# Altium footprint library buttons.PcbLib: 9 footprints
Each footprint in its own frame and in the unit in brackets; x right, y up, seen from the top. Pads: shape width x height; smd on the part's side, far side on the other; paste and mask are expansions set on the pad; w line width, h text height; cw(c..) or ccw(c..) is an arc to the next point about the centre after c.
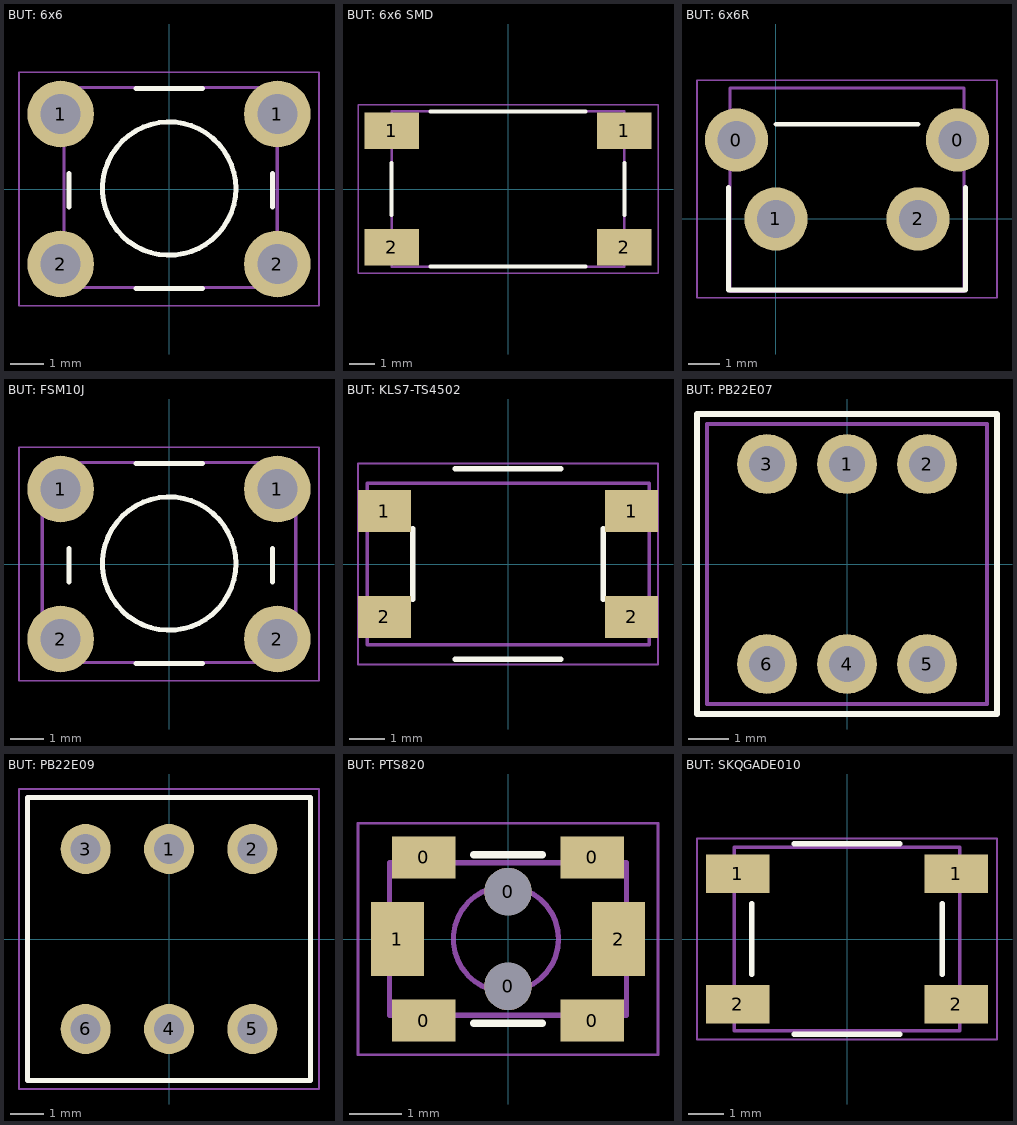
[diagram p0: the footprints below, top view; thin cyan lines are the x and y axes]

## BUT: 6x6 [mm] "Leaded Tactile Button 6x6"
height 5
pads (4):
  round 2 hole 1.2: 1(-3.25,2.25) 1(3.25,2.25) 2(-3.25,-2.25) 2(3.25,-2.25)
Top Overlay:
  circle w0.15: c0.004,0.012 r2
  lines w0.15: -2.996,-0.544 -2.996,0.472 ; -0.996,-2.988 1.004,-2.988 ; -0.996,3.012 1.004,3.012 ; 3.1,-0.544 3.1,0.472
Top Assembly:
  lines w0.1: -3.148,-2.957 -3.148,3.043 3.252,3.043 3.252,-2.957 -3.148,-2.957
  text ".Designator" at -4.998,-0.333 h1
Top Courtyard (Mech15):
  lines w0.05: -4.5,-3.5 4.5,-3.5 4.5,3.5 -4.5,3.5 -4.5,-3.5
3D body "кнопка_тактовая_6х6х1.STEP": height 4.5, standoff -0.9, extent -3.148,-2.957 3.252,3.043

## BUT: 6x6 SMD [mm] "Leaded Tactile Button 6x6"
height 9
pads (4):
  rect 2.1x1.4 smd: 1(-4.5,2.25) 1(4.5,2.25) 2(-4.5,-2.25) 2(4.5,-2.25)
Top Overlay:
  lines w0.15: -4.5,-1 -4.5,1 ; -3,-3 3,-3 ; -3,3 3,3 ; 4.5,-1 4.5,1
Top Assembly:
  lines w0.1: -4.5,-3 -4.5,3 4.5,3 4.5,-3 -4.5,-3
  text ".Designator" at -4.998,-0.333 h1
Top Courtyard (Mech15):
  lines w0.05: -5.8,-3.25 5.8,-3.25 5.8,3.25 -5.8,3.25 -5.8,-3.25
3D body "User Library-PTS645SL43SMTR92-LFS.STEP": height 4.3, standoff 0, extent -4.5,-3 4.5,3

## BUT: 6x6R [mm]
height 7.4
pads (4):
  round 2 hole 1.2: 0(-1.25,2.5) 0(5.75,2.5) 1(0,0) 2(4.5,0)
Top Overlay:
  lines w0.15: -1.5,1 -1.5,-2.25 6,-2.25 6,1 ; 0,3 4.5,3
Top Assembly:
  lines w0.1: -1.45,-2.3 -1.45,4.15 5.95,4.15 5.95,-2.3 -1.45,-2.3
  text ".Designator" at -4.998,-0.333 h1
Top Courtyard (Mech15):
  lines w0.05: -2.5,-2.5 -2.5,4.4 7,4.4 7,-2.5 -2.5,-2.5
3D body "User Library-SWITCH, TACTILE, RIGHT ANGLE, 12VDC, 50MA, 6_85MM ACTUATOR, WEALTH METAL TC-0244Z-1.STEP": height 7, standoff -4, extent -1.45,-6.85 5.95,4.15

## BUT: FSM10J [mm] "Leaded Tactile Button 6x6"
height 5
pads (4):
  round 2 hole 1.2: 1(-3.25,2.25) 1(3.25,2.25) 2(-3.25,-2.25) 2(3.25,-2.25)
Top Overlay:
  circle w0.15: c0.004,0.012 r2
  lines w0.15: -2.996,-0.544 -2.996,0.472 ; -0.996,-2.988 1.004,-2.988 ; -0.996,3.012 1.004,3.012 ; 3.1,-0.544 3.1,0.472
Top Assembly:
  lines w0.1: -3.8,-2.957 -3.8,3.043 3.8,3.043 3.8,-2.957 -3.8,-2.957
  text ".Designator" at -4.998,-0.333 h1
Top Courtyard (Mech15):
  lines w0.05: -4.5,-3.5 4.5,-3.5 4.5,3.5 -4.5,3.5 -4.5,-3.5
3D body "FSM10J.STEP": height 7.2, standoff -3.53, extent -3.801,-2.957 3.801,3.043

## BUT: KLS7-TS4502 [mm]
pads (4):
  rect 1.5x1.2 smd: 1(-3.5,1.5) 1(3.5,1.5) 2(-3.5,-1.5) 2(3.5,-1.5)
Top Overlay:
  lines w0.15: -2.7,-1 -2.7,1 ; -1.5,-2.7 1.5,-2.7 ; -1.5,2.7 1.5,2.7 ; 2.7,-1 2.7,1
Top Assembly:
  lines w0.1: -3.992,-2.286 -3.992,2.286 4.001,2.286 4.001,-2.286 -3.992,-2.286
  text ".Designator" at -4.998,-0.333 h1
Top Courtyard (Mech15):
  lines w0.05: -4.25,-2.85 -4.25,2.85 4.25,2.85 4.25,-2.85 -4.25,-2.85
3D body "button.STEP": height 3.8, standoff 0, extent -4,-2.25 4,2.25

## BUT: PB22E07 [mm] "DPDT, 7x7"
height 12.3
pads (6):
  round 1.5 hole 0.9: 1(0,2.5) 2(2,2.5) 3(-2,2.5) 4(0,-2.5) 5(2,-2.5) 6(-2,-2.5)
Top Overlay:
  lines w0.15: -3.75,-3.75 -3.75,3.75 3.75,3.75 3.75,-3.75 -3.75,-3.75
Top Assembly:
  lines w0.1: -3.5,-3.5 -3.5,3.5 3.5,3.5 3.5,-3.5 -3.5,-3.5
  text ".Designator" at -4.998,-0.333 h1
Top Courtyard (Mech15):
  lines w0.05: -3.75,-3.75 -3.75,3.75 3.75,3.75 3.75,-3.75 -3.75,-3.75
3D body "PB22E07.STEP": height 12.6, standoff -2, extent -3.5,-3.5 3.5,3.5

## BUT: PB22E09 [mm] "DPDT, 8.5x8.5x14"
height 14
pads (6):
  round 1.5 hole 0.9: 1(0,2.7) 2(2.5,2.7) 3(-2.5,2.7) 4(0,-2.7) 5(2.5,-2.7) 6(-2.5,-2.7)
Top Overlay:
  lines w0.15: -4.25,-4.25 -4.25,4.25 4.25,4.25 4.25,-4.25 -4.25,-4.25
Top Assembly:
  lines w0.1: -4.25,-4.25 -4.25,4.25 4.25,4.25 4.25,-4.25 -4.25,-4.25
  text ".Designator" at -4.998,-0.333 h1
Top Courtyard (Mech15):
  lines w0.05: -4.5,-4.5 4.5,-4.5 4.5,4.5 -4.5,4.5 -4.5,-4.5
3D body "PB22E09.STEP": height 14, standoff -2, extent -4.25,-4.25 4.25,4.25

## BUT: PTS820 [mm]
pads (8):
  rect 1.2x0.8 smd: 0(-1.6,-1.55) 0(-1.6,1.55) 0(1.6,-1.55) 0(1.6,1.55)
  round 0.9 hole 0.9 unplated: 0(0,-0.9) 0(0,0.9)
  rect 1x1.4 smd: 1(-2.1,0) 2(2.1,0)
Top Overlay:
  lines w0.15: -0.65,-1.6 0.65,-1.6 ; -0.65,1.6 0.65,1.6
Top Assembly:
  circle w0.1: c-0.04,0 r1
  lines w0.1: -2.25,-1.45 2.25,-1.45 2.25,1.45 -2.25,1.45 -2.25,-1.45
  text ".Designator" at -4.998,-0.333 h1
Top Courtyard (Mech15):
  lines w0.05: -2.85,-2.2 -2.85,2.2 2.85,2.2 2.85,-2.2 -2.85,-2.2
3D body "PTS820J20KSMTRLFS.stp": height 2.05, standoff 0.05, extent -2.25,-1.45 2.25,1.45

## BUT: SKQGADE010 [mm]
pads (4):
  rect 1.8x1.1 smd: 1(-3.1,1.85) 1(3.1,1.85) 2(-3.1,-1.85) 2(3.1,-1.85)
Top Overlay:
  lines w0.15: -2.7,-1 -2.7,1 ; -1.5,-2.7 1.5,-2.7 ; -1.5,2.7 1.5,2.7 ; 2.7,-1 2.7,1
Top Assembly:
  lines w0.1: -3.2,-2.6 -3.2,2.6 3.2,2.6 3.2,-2.6 -3.2,-2.6
  text ".Designator" at -4.998,-0.333 h1
Top Courtyard (Mech15):
  lines w0.05: -4.25,-2.85 -4.25,2.85 4.25,2.85 4.25,-2.85 -4.25,-2.85
3D body "User Library-4x4_SMD_Switch.STEP": height 1.45, standoff -0.05, extent -3.2,-2.6 3.2,2.6